# Altium footprint library mylib.PcbLib: 214 footprints (part 12 of 14)
Each footprint in its own frame and in the unit in brackets; x right, y up, seen from the top. Pads: shape width x height; smd on the part's side, far side on the other; paste and mask are expansions set on the pad; w line width, h text height; cw(c..) or ccw(c..) is an arc to the next point about the centre after c.
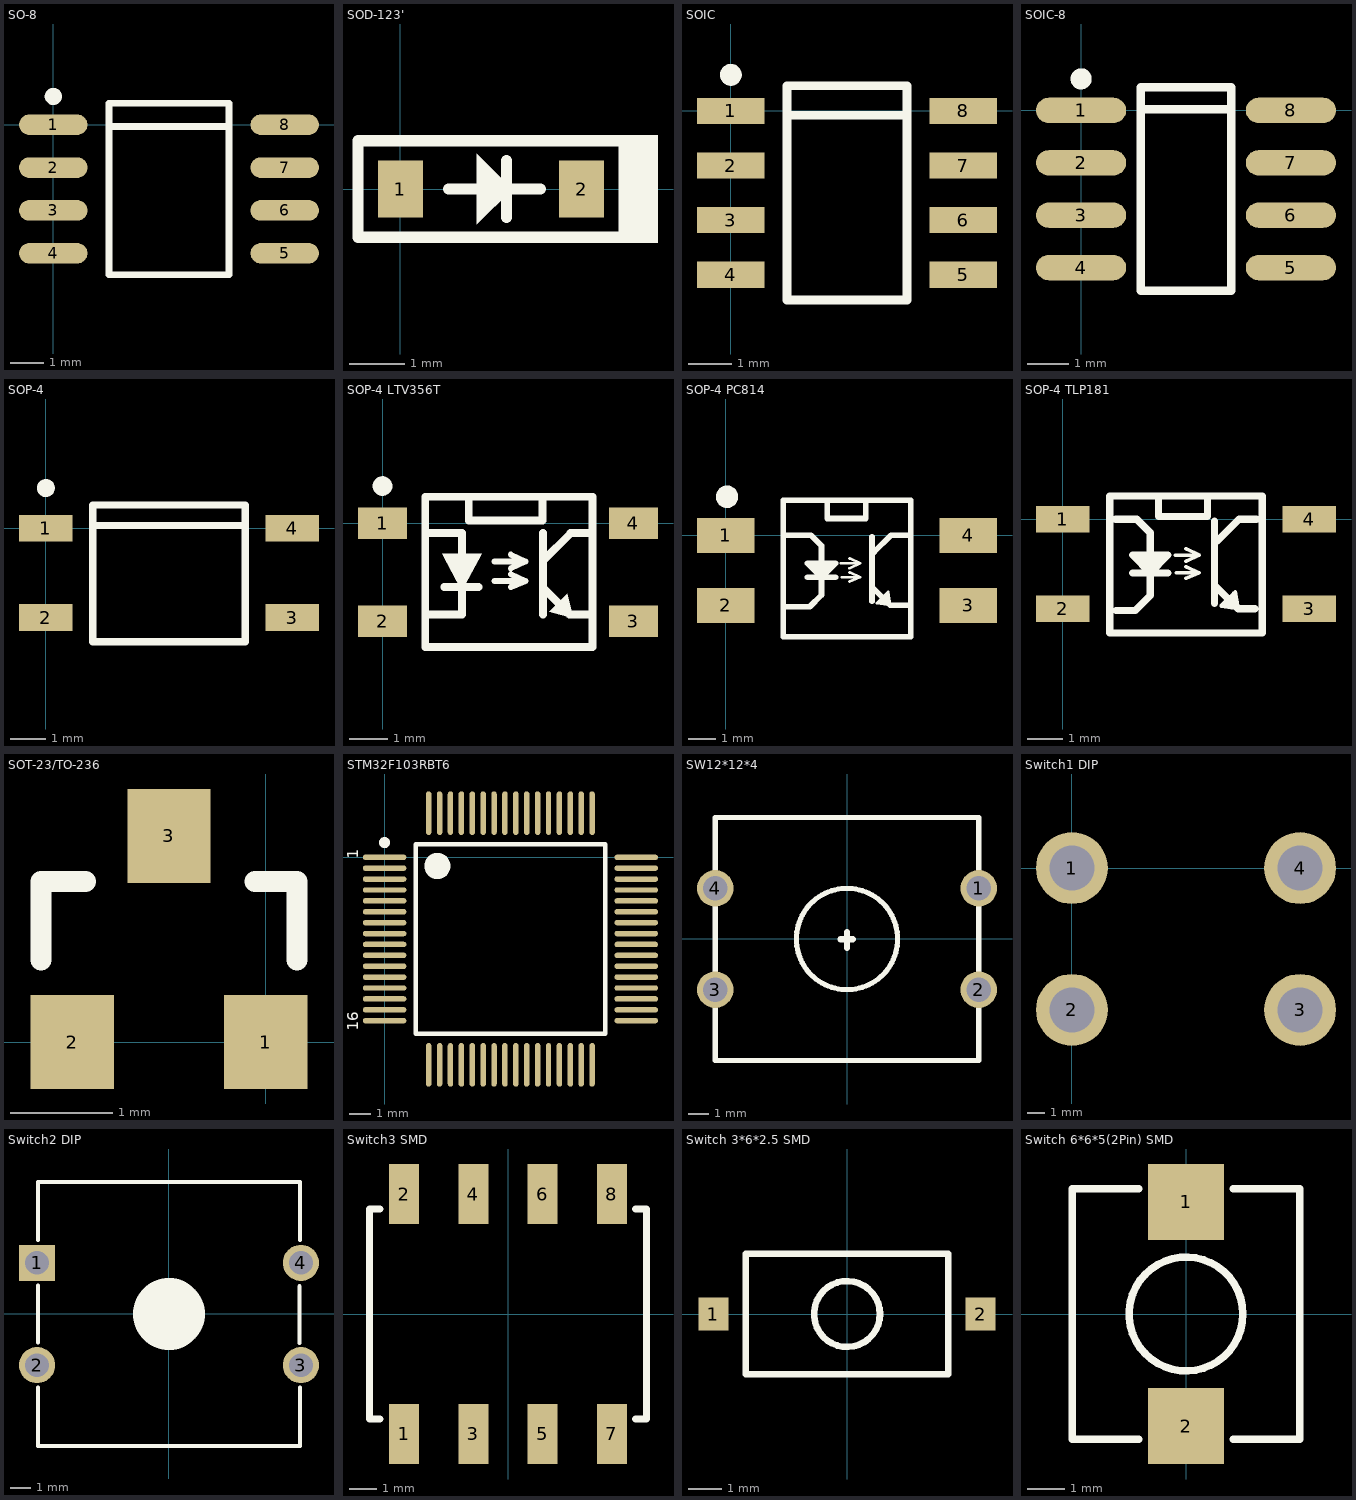
[diagram p11: the footprints below, top view; thin cyan lines are the x and y axes]

## SO-8 [mil]
pads (8):
  oval 80x24 smd: 1(0,0) 2(0,-50) 3(0,-100) 4(0,-150) 5(270,-150) 6(270,-100) 7(270,-50) 8(270,0)
Top Overlay:
  circle w10: c0,33 r5
  lines w8: 65,-2 205,-2 ; 65,-175 65,25 205,25 205,-175 65,-175

## SOD-123' [mil]
pads (2):
  rect 32x40 smd: 1(0,0) 2(128,0)
Top Overlay:
  rectangle: 156,-38 182,38
  region: 79,0 54,25 54,-25
  lines w8: 34,0 59,0 ; 69,0 99,0 ; 75,-20 75,20 ; -30,-34 158,-34 158,34 -30,34 -30,-34

## SOIC [mil]
pads (8):
  rect 62x24 smd: 1(0,0) 2(0,-50) 3(0,-100) 4(0,-150) 5(212.6,-150) 6(212.6,-100) 7(212.6,-50) 8(212.6,0)
Top Overlay:
  circle w10: c0,33 r5
  lines w8: 51.3,-4 161.3,-4 ; 51.3,-173 161.3,-173 161.3,23 51.3,23 51.3,-173

## SOIC-8 [mil] "SOIC, 8-Leads, Body 5.0x4.0mm (max), Pitch 1.27mm, IPC Medium Density"
height 68.9
pads (8):
  oval 86x24 smd: 1(0,0) 2(0,-50) 3(0,-100) 4(0,-150) 5(200,-150) 6(200,-100) 7(200,-50) 8(200,0)
Top Overlay:
  circle w10: c0,30 r5
  lines w8: 57,1 143,1 ; 57,-172 143,-172 143,22 57,22 57,-172

## SOP-4 [mil]
pads (4):
  rect 60x30 smd: 1(0,0) 2(0,-100) 3(275.59,-100) 4(275.59,0)
Top Overlay:
  circle w10: c0,45 r5
  lines w8: 52.56,3 223.03,3 ; 52.56,-127 223.03,-127 223.03,26 52.56,26 52.56,-127

## SOP-4 LTV356T [mil]
pads (4):
  rect 50x32 smd: 1(0,0) 2(0,-100) 3(255.91,-100) 4(255.91,0)
Top Overlay:
  circle w10: c0,38 r5
  region: 170,-90 188.41,-71.59 194.72,-96.58
  region: 60.69,-31 101.31,-31 81,-69
  lines w6: 114,-59 145.8,-59 ; 114,-39 145.8,-39 ; 130.8,-65 145.8,-59 ; 130.8,-52 145.8,-59 ; 130.8,-46 145.8,-39 ; 130.8,-32 145.8,-39
  lines w8: 43.56,-93 81,-93 81,-10 43.56,-10 ; 63,-65 98,-65 ; 88,27 88,3 163,3 163,27 ; 163.8,-93 163.8,-10 ; 163.8,-66 190.8,-93 214.03,-93 ; 163.8,-38 191.8,-10 214.03,-10 ; 43.56,-126 43.56,27 214.03,27 214.03,-126 43.56,-126

## SOP-4 PC814 [mil]
pads (4):
  rect 82x50 smd: 1(0,0) 2(0,-100) 3(346.46,-100) 4(346.46,0)
Top Overlay:
  circle w16: c1.87,54.97 r8
  region: 117.87,-40.03 154.87,-40.03 136.87,-60.03
  region: 216.08,-97.03 235.08,-100.03 232.08,-81.03
  lines w4: 164.87,-40.03 191.87,-40.03 ; 165.87,-60.03 191.87,-60.03 ; 176.87,-66.03 191.87,-60.03 ; 176.87,-53.03 191.87,-60.03 ; 176.87,-47.03 191.87,-40.03 ; 176.87,-33.03 191.87,-40.03 ; 229.98,-83.13 232.08,-81.03 235.08,-100.03 216.08,-97.03 231.08,-82.03
  lines w8: 82.09,-102.03 120.08,-102.03 136.87,-85.24 136.87,-60.03 ; 82.09,-0.03 121.87,-0.03 136.87,-15.03 136.87,-40.03 ; 116.87,-60.03 156.87,-60.03 ; 144.87,50 144.87,23.97 199.87,23.97 199.87,50 ; 208.87,-94.03 208.87,-2.03 ; 209.08,-74.03 235.08,-100.03 264.37,-100.03 ; 211.98,-24.13 236.08,-0.03 264.37,-0.03 ; 136.87,-60.03 156.87,-40.03 116.87,-40.03 136.87,-60.03 ; 82.09,-145.03 264.37,-145.03 264.37,50 82.09,50 82.09,-145.03

## SOP-4 TLP181 [mil]
pads (4):
  rect 60x30 smd: 1(0,0) 2(0,-100) 3(275.59,-100) 4(275.59,0)
Top Overlay:
  region: 177,-97 196,-100 193,-81
  region: 78.8,-40 115.8,-40 97.8,-60
  lines w4: 125.8,-40 152.8,-40 ; 126.8,-60 152.8,-60 ; 137.8,-66 152.8,-60 ; 137.8,-53 152.8,-60 ; 137.8,-47 152.8,-40 ; 137.8,-33 152.8,-40 ; 190.9,-83.1 193,-81 196,-100 177,-97 192,-82
  lines w8: 58.8,0 82.8,0 97.8,-15 97.8,-40 ; 59.8,-102 81,-102 97.8,-85.2 97.8,-60 ; 77.8,-60 117.8,-60 ; 107,24 107,3 162,3 162,26 52.56,26 52.56,-127 223.03,-127 223.03,26 ; 160.8,26 223.01,26 ; 169.8,-94 169.8,-2 ; 170,-74 196,-100 214.8,-100 ; 172.9,-24.1 197,0 216.8,0 ; 97.8,-60 77.8,-40 117.8,-40 97.8,-60

## SOT-23/TO-236 [mil]
pads (3):
  rect 32x36 smd: 1(0,0) 2(-74,0) 3(-37,79)
Top Overlay:
  lines w8: -86,31.52 -86,61.52 -69,61.52 ; -4,61.52 12,61.52 12,31.52

## STM32F103RBT6 [mm]
pads (64):
  oval 2x0.25 smd: 1(0,0) 2(0,-0.5) 3(0,-1) 4(0,-1.5) 5(0,-2) 6(0,-2.5) 7(0,-3) 8(0,-3.5) 9(0,-4) 10(0,-4.5) 11(0,-5) 12(0,-5.5) 13(0,-6) 14(0,-6.5) 15(0,-7) 16(0,-7.5) 33(11.55,-7.5) 34(11.55,-7) 35(11.55,-6.5) 36(11.55,-6) 37(11.55,-5.5) 38(11.55,-5) 39(11.55,-4.5) 40(11.55,-4) 41(11.55,-3.5) 42(11.55,-3) 43(11.55,-2.5) 44(11.55,-2) 45(11.55,-1.5) 46(11.55,-1) 47(11.55,-0.5) 48(11.55,0)
  oval 0.25x2 smd: 17(2.025,-9.525) 18(2.525,-9.525) 19(3.025,-9.525) 20(3.525,-9.525) 21(4.025,-9.525) 22(4.525,-9.525) 23(5.025,-9.525) 24(5.525,-9.525) 25(6.025,-9.525) 26(6.525,-9.525) 27(7.025,-9.525) 28(7.525,-9.525) 29(8.025,-9.525) 30(8.525,-9.525) 31(9.025,-9.525) 32(9.525,-9.525) 49(9.525,2.025) 50(9.025,2.025) 51(8.525,2.025) 52(8.025,2.025) 53(7.525,2.025) 54(7.025,2.025) 55(6.525,2.025) 56(6.025,2.025) 57(5.525,2.025) 58(5.025,2.025) 59(4.525,2.025) 60(4.025,2.025) 61(3.525,2.025) 62(3.025,2.025) 63(2.525,2.025) 64(2.025,2.025)
Top Overlay:
  circle w0.25: c0,0.675 r0.125
  circle w0.6: c2.425,-0.4 r0.3
  lines w0.203: 1.425,-8.1 1.425,0.6 10.125,0.6 10.125,-8.1 1.425,-8.1
  text "16" at -1.219,-7.95 h0.51
  text "1" at -1.219,-0.076 h0.51

## SW12*12*4 [mm]
pads (4):
  round 1.8 hole 1.2 mask+0.127: 1(6.5,2.476) 2(6.5,-2.523) 3(-6.5,-2.523) 4(-6.5,2.476)
Top Overlay:
  lines w0.254: -6.5,-3.39 -6.5,-6.024 ; -6.5,1.976 -6.5,5.976 6.5,5.976 6.5,-6.024 -6.5,-6.024 ; -6.496,-1.71 -6.496,1.592 -6.5,1.477 -6.5,-6.024 ; -2.5,-0.024 -2.494,-0.198 -2.475,-0.372 -2.445,-0.543 -2.403,-0.713 -2.349,-0.879 -2.284,-1.04 -2.207,-1.197 -2.12,-1.348 -2.022,-1.493 -1.915,-1.631 -1.798,-1.76 -1.673,-1.881 -1.539,-1.994 -1.398,-2.096 -1.25,-2.189 -1.096,-2.27 -0.936,-2.341 -0.772,-2.401 -0.605,-2.449 -0.434,-2.486 -0.261,-2.51 -0.087,-2.522 0.087,-2.522 0.261,-2.51 0.434,-2.486 0.605,-2.449 0.773,-2.401 0.937,-2.341 1.096,-2.27 1.25,-2.189 1.398,-2.096 1.539,-1.994 1.673,-1.881 1.798,-1.76 1.915,-1.631 2.023,-1.493 2.12,-1.348 2.207,-1.197 2.284,-1.04 2.349,-0.879 2.403,-0.713 2.445,-0.543 2.476,-0.372 2.494,-0.198 2.5,-0.024 2.494,0.151 2.476,0.324 2.445,0.496 2.403,0.665 2.349,0.831 2.284,0.993 2.207,1.15 2.12,1.301 2.023,1.446 1.915,1.583 1.798,1.713 1.673,1.834 1.539,1.946 1.398,2.049 1.25,2.141 1.096,2.223 0.937,2.294 0.773,2.354 0.605,2.402 0.434,2.438 0.261,2.463 0.087,2.475 -0.087,2.475 -0.261,2.463 -0.434,2.438 -0.605,2.402 -0.772,2.354 -0.936,2.294 -1.096,2.223 -1.25,2.141 -1.398,2.049 -1.539,1.946 -1.673,1.834 -1.798,1.713 -1.915,1.583 -2.022,1.446 -2.12,1.301 -2.207,1.15 -2.284,0.993 -2.349,0.831 -2.403,0.665 -2.445,0.496 -2.475,0.324 -2.494,0.151 -2.5,-0.024
  lines w0.305: -0.324,-0.033 0.286,-0.033 ; 0.006,-0.465 0.006,0.322

## Switch1 DIP [mil]
pads (4):
  round 157.5 hole 98.5: 1(0,0) 2(0,-311) 3(500,-311) 4(500,0)

## Switch2 DIP [mm]
pads (4):
  rect 1.77x1.77 hole 1.16: 1(-6.45,2.5)
  round 1.77 hole 1.16: 2(-6.45,-2.5) 3(6.45,-2.5) 4(6.45,2.5)
Top Overlay:
  circle w3: c0,0 r0.254
  lines w0.203: -6.4,-6.452 6.401,-6.45 6.4,-3.6 ; -6.4,-6.441 -6.4,-5 -6.4,-3.6 ; -6.4,-1.4 -6.4,1.4 ; -6.4,3.62 -6.4,6.45 ; -6.4,6.451 6.4,6.448 ; 6.38,-1.42 6.38,1.36 ; 6.4,3.62 6.4,6.45

## Switch3 SMD [mm]
pads (8):
  rect 1.1x2.2 smd: 1(-3.81,-4.4) 2(-3.81,4.4) 3(-1.27,-4.4) 4(-1.27,4.4) 5(1.27,-4.4) 6(1.27,4.4) 7(3.81,-4.4) 8(3.81,4.4)
Top Overlay:
  lines w0.254: -4.699,-3.85 -5.08,-3.85 -5.08,3.85 -4.699,3.85 ; 4.674,-3.85 5.08,-3.85 5.08,3.85 4.674,3.85

## Switch 3*6*2.5 SMD [mm]
pads (2):
  rect 0.9x1 smd: 1(-4.05,0) 2(4.05,0)
Top Overlay:
  circle w0.2: c0,0 r1
  lines w0.2: -3.075,-1.825 -3.075,1.825 3.075,1.825 3.075,-1.825 -3.075,-1.825

## Switch 6*6*5(2Pin) SMD [mil]
pads (2):
  rect 80x80 smd: 1(0,118.11) 2(0,-118.11)
Top Overlay:
  circle w8: c0,0 r60
  lines w8: -50,-132 -120,-132 -120,132 -50,132 ; 50,-132 120,-132 120,132 50,132